# Altium footprint library Small Outline (~1.27mm Pitch) - 6to20 Leads.PcbLib: 81 footprints (part 6 of 6)
Each footprint in its own frame and in the unit in brackets; x right, y up, seen from the top. Pads: shape width x height; smd on the part's side, far side on the other; paste and mask are expansions set on the pad; w line width, h text height; cw(c..) or ccw(c..) is an arc to the next point about the centre after c.
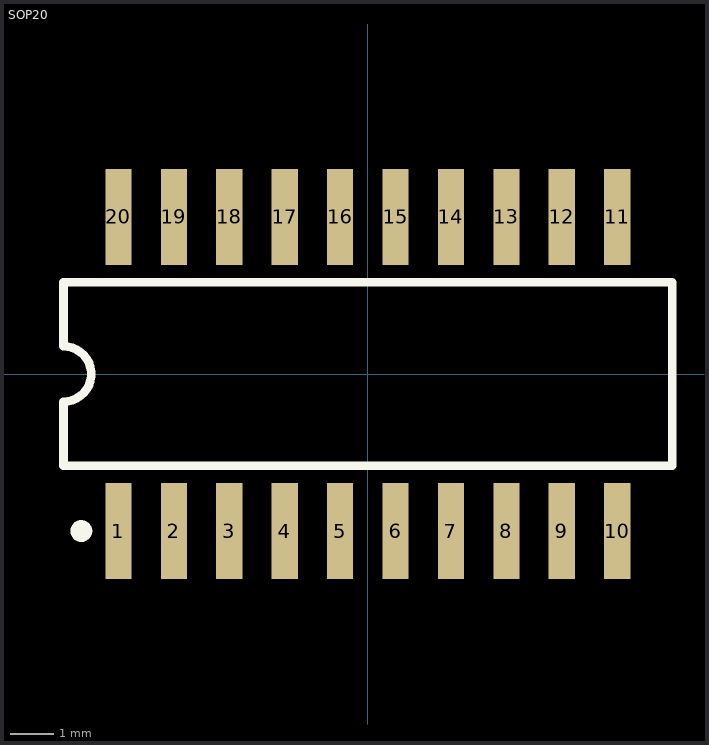
[diagram p5: the footprint, top view; thin cyan lines are the x and y axes]

## SOP20 [mm] "Small Outline; 20 Leads; Body Width 5.6 mm; Pitch 1.27 mm"
height 2
pads (20):
  rect 0.6x2.2 smd: 1(-5.715,-3.6) 2(-4.445,-3.6) 3(-3.175,-3.6) 4(-1.905,-3.6) 5(-0.635,-3.6) 6(0.635,-3.6) 7(1.905,-3.6) 8(3.175,-3.6) 9(4.445,-3.6) 10(5.715,-3.6) 11(5.715,3.6) 12(4.445,3.6) 13(3.175,3.6) 14(1.905,3.6) 15(0.635,3.6) 16(-0.635,3.6) 17(-1.905,3.6) 18(-3.175,3.6) 19(-4.445,3.6) 20(-5.715,3.6)
Top Overlay:
  circle w0.25: c-6.565,-3.6 r0.125
  lines w0.2: -6.975,-2.1 6.975,-2.1 6.975,2.1 -6.975,2.1 -6.975,0.635 cw(c-6.975,0) -6.975,-0.635 -6.975,-2.1